# EAGLE library part ALM-1412 (library Jim_RF_Retired)
ALM-1412 GPS LNA-Filter Front-End Module Low-noise amplifier (LNA) module with integrated filter, designed for GPS band applications. Datasheet <http://www.mouser.com/ds/2/678/ALM-1412-909459.pdf>
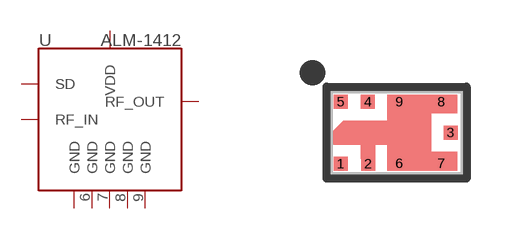
[diagram p36: symbol with the pads of ALM-1412; footprint ALM-1412]

Designator prefix -

## ALM-1412 (PROD_ID: COMP-08740)  [ALM-1412]
1  SD
2  GND
3  RF_OUT
4  VDD
5  RF_IN
6  GND
7  GND
8  GND
9  GND

## Footprint ALM-1412 (pad centres in mm)
ALM-1412 GPS LNA-Filter Front-End Module Low-noise amplifier (LNA) module with integrated filter, designed for GPS band applications. Datasheet <http://www.mouser.com/ds/2/678/ALM-1412-909459.pdf>
smd 0.35 x 0.35: 1 -1.4,-0.78; 2 -0.71,-0.78; 3 1.35,0; 4 -0.72,0.77; 5 -1.4,0.77; 6 0.07,-0.77; 7 1.12,-0.77; 8 1.12,0.77; 9 0.07,0.77